# Altium footprint library TSW-105-07-T-D.PcbLib: 2 footprints
Each footprint in its own frame and in the unit in brackets; x right, y up, seen from the top. Pads: shape width x height; smd on the part's side, far side on the other; paste and mask are expansions set on the pad; w line width, h text height; cw(c..) or ccw(c..) is an arc to the next point about the centre after c.
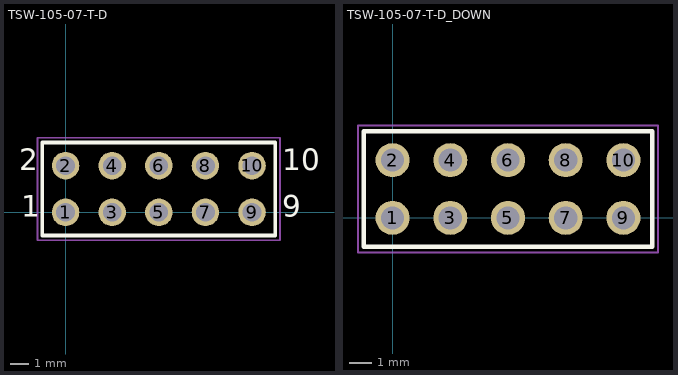
[diagram p0: the footprints below, top view; thin cyan lines are the x and y axes]

## TSW-105-07-T-D [mm] "SAMTEC - TSW-105-T-D - HEADER, 2.54MM, THT VERT, 10WAY"
height 5
pads (10):
  round 1.5 hole 1.02: 1(0,0) 2(0,2.54) 3(2.54,0) 4(2.54,2.54) 5(5.08,0) 6(5.08,2.54) 7(7.62,0) 8(7.62,2.54) 9(10.16,0) 10(10.16,2.54)
Top Overlay:
  lines w0.203: -1.27,-1.27 -1.27,3.81 11.43,3.81 11.43,-1.27 -1.27,-1.27
  text "1" at -2.413,-0.635 h2
  text "2" at -2.54,1.905 h2
  text "9" at 11.811,-0.635 h2
  text "10" at 11.811,1.905 h2
Mechanical 1:
  lines w0.102: -1.27,-1.27 -1.27,3.81 11.43,3.81 11.43,-1.27 -1.27,-1.27
Mechanical 15:
  lines w0.102: -1.524,-1.524 -1.524,4.064 -0.381,4.064 11.684,4.064 11.684,-1.524 -1.524,-1.524
3D body: height 8.38, standoff -2.54, extent -1.27,-1.27 11.43,3.81

## TSW-105-07-T-D_DOWN [mm] "SAMTEC - TSW-105-T-D - HEADER, 2.54MM, THT VERT, 10WAY"
height 5
pads (10):
  round 1.5 hole 1.02: 1(0,0) 2(0,2.54) 3(2.54,0) 4(2.54,2.54) 5(5.08,0) 6(5.08,2.54) 7(7.62,0) 8(7.62,2.54) 9(10.16,0) 10(10.16,2.54)
Top Overlay:
  lines w0.203: -1.27,-1.27 -1.27,3.81 11.43,3.81 11.43,-1.27 -1.27,-1.27
Mechanical 1:
  lines w0.102: -1.27,-1.27 -1.27,3.81 11.43,3.81 11.43,-1.27 -1.27,-1.27
Mechanical 15:
  lines w0.102: -1.524,-1.524 -1.524,4.064 -0.381,4.064 11.684,4.064 11.684,-1.524 -1.524,-1.524
3D body: height 2.08, standoff -8.84, extent -1.27,-1.27 11.43,3.81